# Altium schematic symbol library SEA_SCH_LIB.SchLib: 120 symbols
Pins are listed as number, name and electrical type; pins without a type are passive.

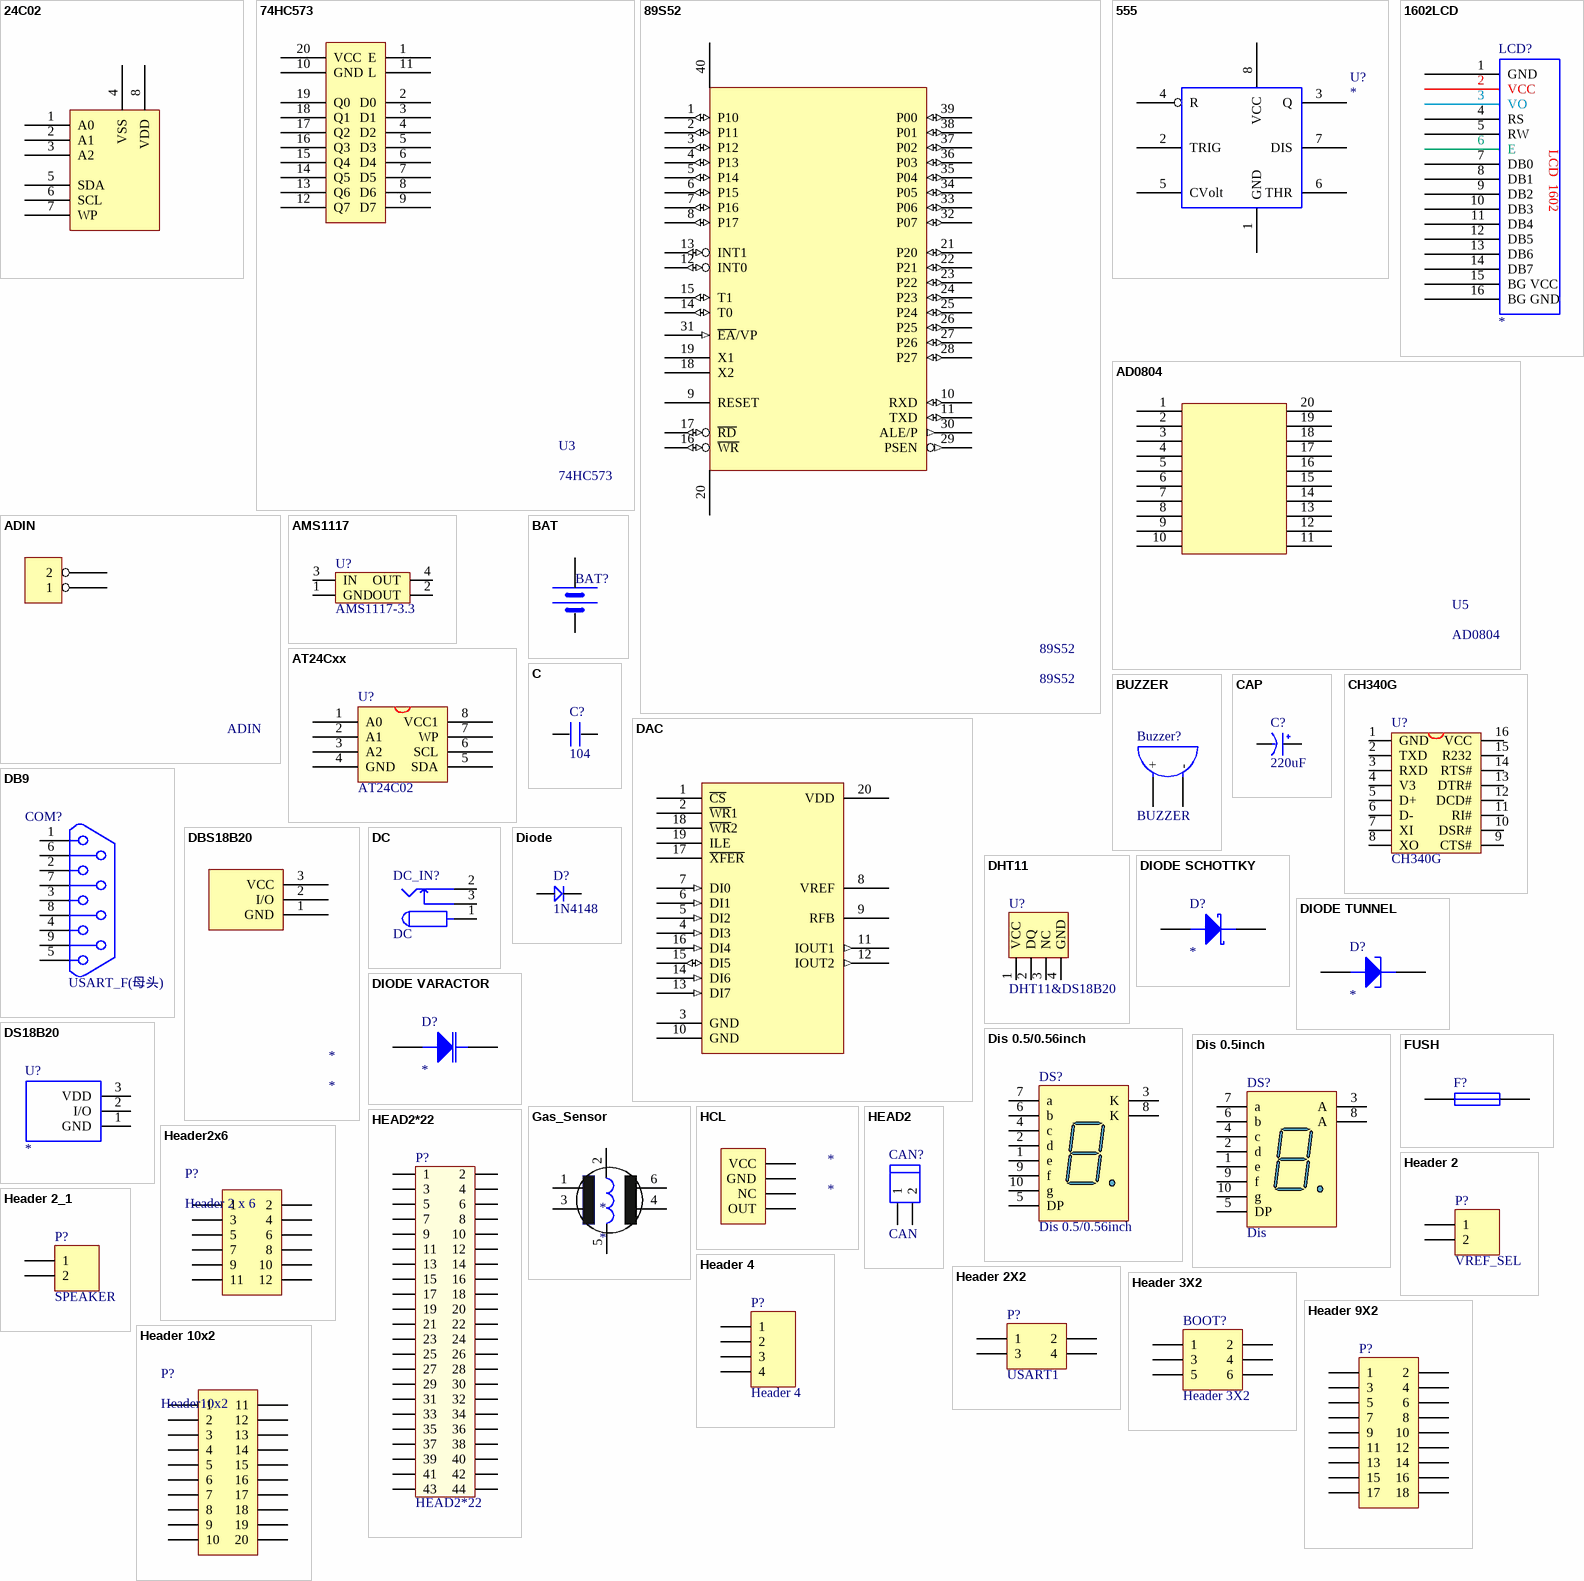
[diagram p0: symbols 24C02 to Header 10x2]

## 24C02
designator U6
pins: 1 A0, 2 A1, 3 A2, 4 VSS, 5 SDA, 6 SCL, 7 WP, 8 VDD

## 74HC573
designator U3
pins: 1 E, 2 D0, 3 D1, 4 D2, 5 D3, 6 D4, 7 D5, 8 D6, 9 D7, 10 GND, 11 L, 12 Q7, 13 Q6, 14 Q5, 15 Q4, 16 Q3, 17 Q2, 18 Q1, 19 Q0, 20 VCC

## 89S52
designator 89S52
pins: 1 P10 (io), 2 P11 (io), 3 P12 (io), 4 P13 (io), 5 P14 (io), 6 P15 (io), 7 P16 (io), 8 P17 (io), 9 RESET, 10 RXD (io), 11 TXD (io), 12 INT0 (io), 13 INT1 (io), 14 T0 (io), 15 T1 (io), 16 ~{WR} (io), 17 ~{RD} (io), 18 X2, 19 X1, 20, 21 P20 (io), 22 P21 (io), 23 P22 (io), 24 P23 (io), 25 P24 (io), 26 P25 (io), 27 P26 (io), 28 P27 (io), 29 PSEN (out), 30 ALE/P (out), 31 ~{EA}/VP (in), 32 P07 (io), 33 P06 (io), 34 P05 (io), 35 P04 (io), 36 P03 (io), 37 P02 (io), 38 P01 (io), 39 P00 (io), 40

## 555
designator U?
footprint DIP-8 (DIP; 8 Leads; Row Spacing 7.62 mm; Pitch 2.54 mm)
pins: 1 GND, 2 TRIG, 3 Q, 4 R, 5 CVolt, 6 THR, 7 DIS, 8 VCC

## 1602LCD
designator LCD?
footprint 1602LCD (LCD module 16*2 char)
pins: 1 GND, 2 VCC, 3 VO, 4 RS, 5 RW, 6 E, 7 DB0, 8 DB1, 9 DB2, 10 DB3, 11 DB4, 12 DB5, 13 DB6, 14 DB7, 15 BG VCC, 16 BG GND
text: LCD  1602

## AD0804
designator U5
pins: 1, 2, 3, 4, 5, 6, 7, 8, 9, 10, 11, 12, 13, 14, 15, 16, 17, 18, 19, 20

## ADIN
designator ?
pins: ?1 2, ?2 1

## AMS1117
designator U?, comment AMS1117-3.3
footprint AMS1117
pins: 1 GND, 2 OUT, 3 IN, 4 OUT

## AT24Cxx
designator U?, comment AT24C02
AT24Cxx
footprint AT24CXX(SOP8) (SOP8,EEPROM)
pins: 1 A0, 2 A1, 3 A2, 4 GND, 5 SDA, 6 SCL, 7 WP, 8 VCC1

## BAT
designator BAT?, comment BATT  (value not drawn)
footprint CR1220 - 1 (CR1220  1220电池座)
footprint CR1220 - 2 (CR1220电池座)
pins: 1 VCC, 2 GND

## BUZZER
designator Buzzer?
蜂鸣器
footprint BUZZER (蜂鸣器)
pins: 1 +, 2 -

## C
designator C?, comment 104
footprint 0603 (通用电容电阻0603 封装)
footprint 0805 (通用电容电阻0805封装)
footprint CAP0603 (CAP0603   0603电容)
pins: 1, 2

## CAP
designator C?, comment 220uF
footprint CAP5X5_4 (CAP5X5_4  贴片电解电容，注意尺寸)
footprint CAP6.56.5 (贴片电解电容)
footprint Cap1 (直插的电解电容，注意正负极，注意引脚距离)
footprint Cap2 (直插的电解电容，注意正负极，注意引脚距离)
footprint Cap3 (直插的电解电容，注意正负极，注意引脚距离)
footprint Cap4 (直插的电解电容，注意正负极，注意引脚距离)
footprint Cap5 (直插的电解电容，注意正负极，注意引脚距离)
footprint cap6 (直插的电解电容，注意正负极，注意引脚距离)
footprint cap7 (直插的电解电容，注意正负极，注意引脚距离)
footprint cap8 (直插的电解电容，注意正负极，注意引脚距离)
pins: 1 VCC, 2 GND

## CH340G
designator U?
USB2UART
footprint CH340 (SOP16,USB转TTL)
pins: 1 GND, 2 TXD, 3 RXD, 4 V3, 5 D+, 6 D-, 7 XI, 8 XO, 9 CTS#, 10 DSR#, 11 RI#, 12 DCD#, 13 DTR#, 14 RTS#, 15 R232, 16 VCC

## DAC
designator *
pins: 1 ~{CS}, 2 ~{WR}1, 3 GND, 4 DI3 (in), 5 DI2 (in), 6 DI1 (in), 7 DI0 (in), 8 VREF, 9 RFB, 10 GND, 11 IOUT1 (out), 12 IOUT2 (out), 13 DI7 (in), 14 DI6 (in), 15 DI5 (io), 16 DI4 (in), 17 ~{XFER}, 18 ~{WR}2, 19 ILE, 20 VDD

## DB9
designator COM?, comment USART_F(母头)
footprint DB9 (串口座)
pins: 1, 2, 3, 4, 5, 6, 7, 8, 9
2 alternate drawings of the same symbol

## DBS18B20
designator *
pins: 1 GND, 2 I/O, 3 VCC

## DC
designator DC_IN?
footprint DC (大DC座)
footprint DC3.5*1.1 (3.5mm*1.1mm  小DC座)
pins: 1, 2, 3

## DHT11
designator U?, comment DHT11&DS18B20
数字温湿度传感器,3-5.5V供电
footprint HDR1X4 (2.54mm)
footprint DHT11 (温湿度传感器,VCC：3-5.5V)
pins: 1 VCC, 2 DQ, 3 NC, 4 GND

## Diode
designator D?, comment 1N4148
二极管
footprint LL4148 (贴片开关二极管)
pins: 1, 2

## DIODE SCHOTTKY
designator D?
Schottky Diode
pins: 1, 2

## DIODE TUNNEL
designator D?
Diode Tunnel
pins: 1 A, 2 K

## DIODE VARACTOR
designator D?
Varactor Diode
pins: 1 A, 2 K

## Dis 0.5/0.56inch
designator DS?
数码管 共阴; MinimumIntensity: 2020 ucd; Note: IF = 10 mA; Colour: Blue; Published: 8-Jun-2000; LatestRevisionDate: 17-Dec-2003; LatestRevisionNote: Schematic revised, PCB Footprint replaced.; DatasheetVersion: 24-Sep-2002; PackageVersion: 24-Sep-2002; PackageReference: H; Publisher: Altium Limited; PackageDescription: LED, 7-Segment Display, 14.2 mm, RHD; 10 Leads; Row Space 15.24 mm; Pitch 2.54 mm; ComponentLink1Description: Manufacturer Link; ComponentLink1URL: http://www.agilent.com/
footprint Disp 0.5inch (数码管，0.5/0.56英寸数码管)
pins: 1 e "Anode", 2 d "Anode", 3 K "Common Cathode", 4 c "Anode", 5 DP "Anode", 6 b "Anode", 7 a "Anode", 8 K "Common Cathode", 9 f "Anode", 10 g "Anode"

## Dis 0.5inch
designator DS?, comment Dis
数码管  0.5/0.56inch 共阳; MinimumIntensity: 2020 ucd; Note: IF = 10 mA; Colour: Blue; Published: 8-Jun-2000; LatestRevisionDate: 17-Dec-2003; LatestRevisionNote: Schematic revised, PCB Footprint replaced.; DatasheetVersion: 24-Sep-2002; PackageVersion: 24-Sep-2002; PackageReference: H; Publisher: Altium Limited; PackageDescription: LED, 7-Segment Display, 14.2 mm, RHD; 10 Leads; Row Space 15.24 mm; Pitch 2.54 mm; ComponentLink1Description: Manufacturer Link; ComponentLink1URL: http://www.agilent.com/
footprint Disp 0.5inch (数码管，0.5/0.56英寸数码管)
pins: 1 e "Cathode", 2 d "Cathode", 3 A "Common Anode", 4 c "Cathode", 5 DP "Cathode", 6 b "Cathode", 7 a "Cathode", 8 A "Common Anode", 9 f "Cathode", 10 g "Cathode"

## DS18B20
designator U?
footprint TO-92A (TO, Flat Index; 3 In-Line, Axial Leads; Body Dia. 4.5mm; Leads 0.51 x 0.48 mm (max))
pins: 1 GND, 2 I/O, 3 VDD

## FUSH
designator F?
保险丝，保险丝的封装有很多，注意
footprint RES0805 (RES0805，0805电阻)
pins: 1, 2

## Gas_Sensor
designator *
pins: 1 (power), 2 (power), 3 (power), 4, 5, 6

## HCL
designator *
footprint hcl
pins: 1 VCC, 2 GND, 3 NC, 4 OUT

## HEAD2
designator CAN?, comment CAN
footprint HDR1X2 (2.54mm)
pins: 1, 2

## HEAD2*22
designator P?
footprint HEAD2*22 (PIN:2.54mm;HEAD;)
pins: 1, 2, 3, 4, 5, 6, 7, 8, 9, 10, 11, 12, 13, 14, 15, 16, 17, 18, 19, 20, 21, 22, 23, 24, 25, 26, 27, 28, 29, 30, 31, 32, 33, 34, 35, 36, 37, 38, 39, 40, 41, 42, 43, 44

## Header2x6
designator P?, comment Header 2 x 6
footprint Header2X6 (Footprint not found)
pins: 1, 2, 3, 4, 5, 6, 7, 8, 9, 10, 11, 12

## Header 2
designator P?, comment VREF_SEL
Header, 2-Pin; LatestRevisionDate: 17-Jul-2002; LatestRevisionNote: Re-released for DXP Platform.; Publisher: Altium Limited
footprint HDR1X2 (Connector; Header; 2 Position)
pins: 1, 2

## Header 2_1
designator P?, comment SPEAKER
Header, 2-Pin; LatestRevisionDate: 17-Jul-2002; LatestRevisionNote: Re-released for DXP Platform.; Publisher: Altium Limited
footprint HDR1X2 (Connector; Header; 2 Position)
pins: 1, 2

## Header 2X2
designator P?, comment USART1
Header, 2-Pin, Dual row; LatestRevisionDate: 17-Jul-2002; LatestRevisionNote: Re-released for DXP Platform.; Publisher: Altium Limited
footprint HDR2X2 (Connector; Header; 2x2 Position)
pins: 1, 2, 3, 4

## Header 3X2
designator BOOT?
Header, 3-Pin, Dual row; LatestRevisionDate: 17-Jul-2002; LatestRevisionNote: Re-released for DXP Platform.; Publisher: Altium Limited
footprint HDR2X3 (Connector; Header; 3x2 Position)
pins: 1, 2, 3, 4, 5, 6

## Header 4
designator P?
Header, 4-Pin; LatestRevisionDate: 17-Jul-2002; LatestRevisionNote: Re-released for DXP Platform.; Publisher: Altium Limited
footprint HDR1X4 (Connector; Header; 4 Position)
pins: 1, 2, 3, 4

## Header 9X2
designator P?
Header, 9-Pin, Dual row; LatestRevisionDate: 17-Jul-2002; LatestRevisionNote: Re-released for DXP Platform.; Publisher: Altium Limited
footprint HDR2X9 (Connector; Header; 9x2 Position)
pins: 1, 2, 3, 4, 5, 6, 7, 8, 9, 10, 11, 12, 13, 14, 15, 16, 17, 18

## Header 10x2
designator P?, comment Header10x2
connector
footprint Header10X2 (connector)
pins: 1, 2, 3, 4, 5, 6, 7, 8, 9, 10, 11, 12, 13, 14, 15, 16, 17, 18, 19, 20

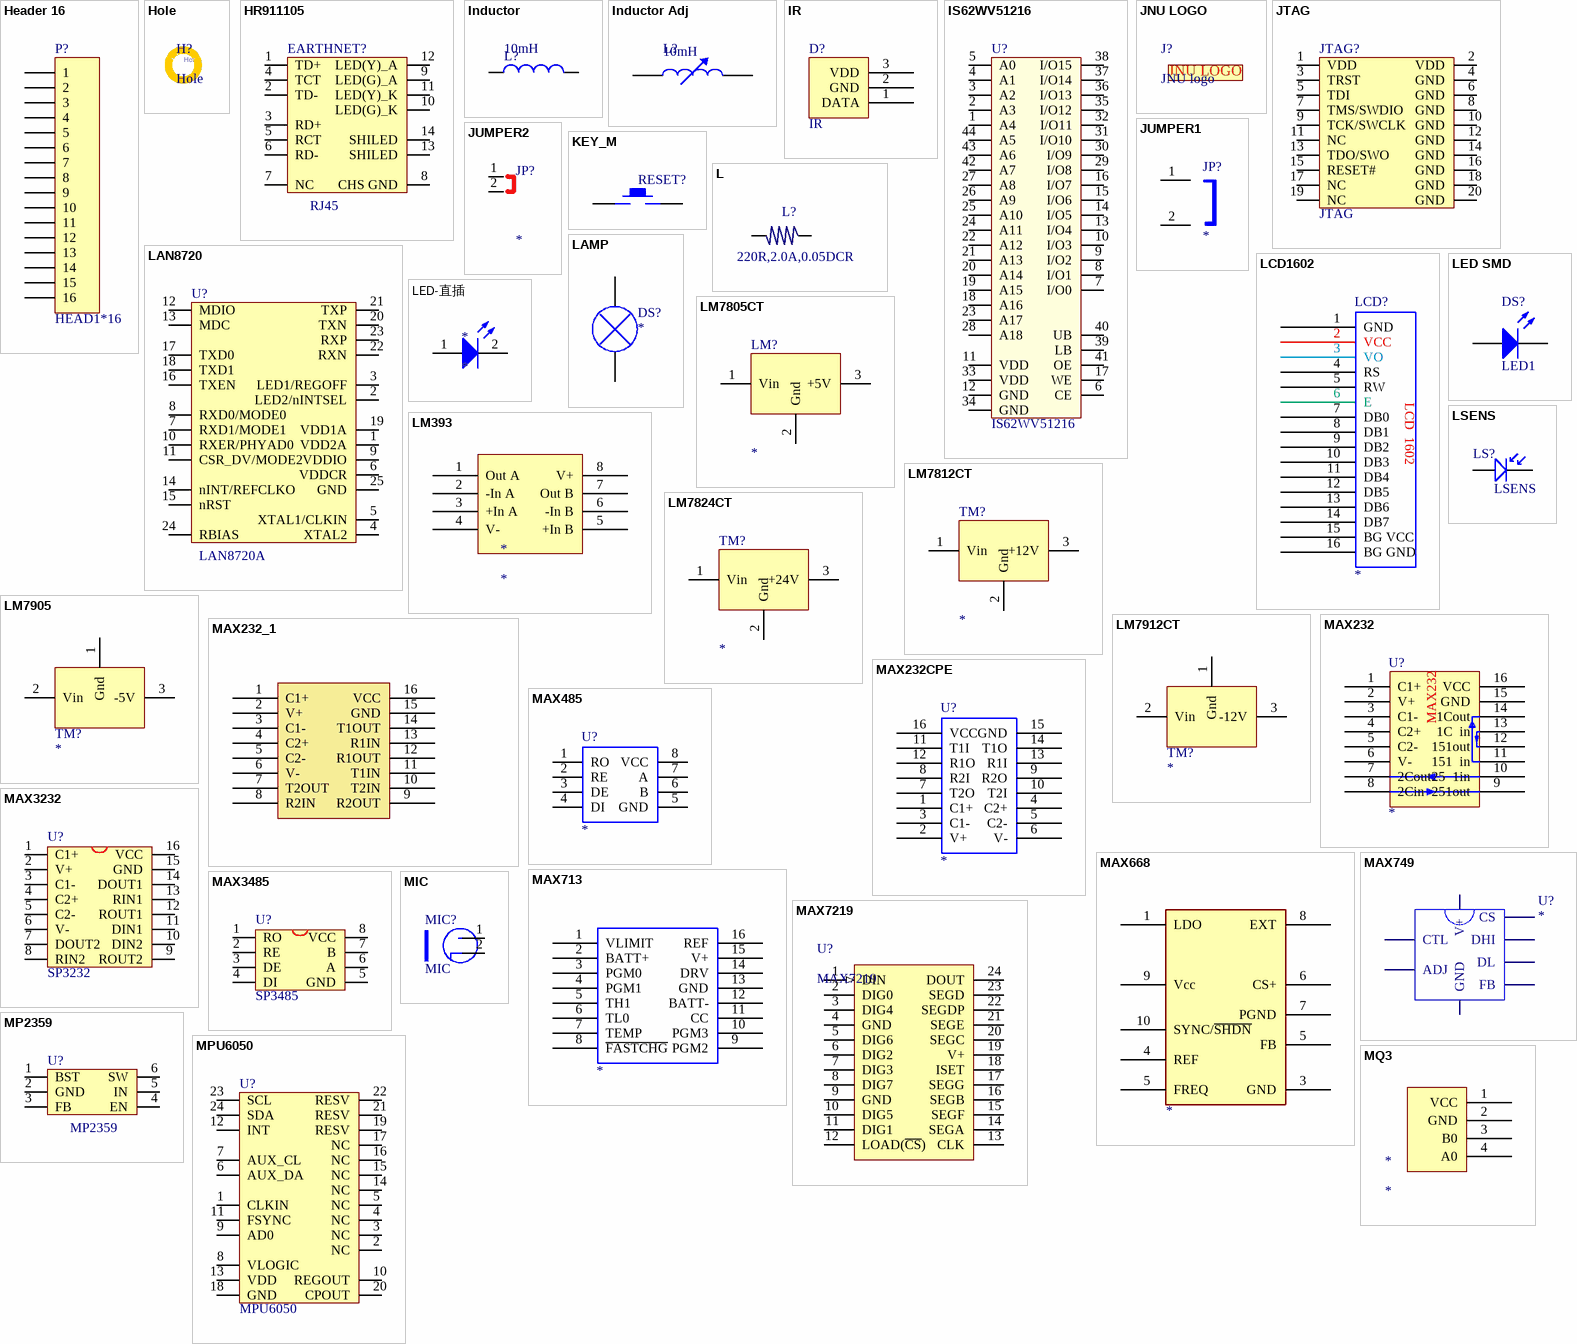
[diagram p1: symbols Header 16 to MQ3]

## Header 16
designator P?, comment HEAD1*16
Header, 16-Pin; LatestRevisionDate: 17-Jul-2002; LatestRevisionNote: Re-released for DXP Platform.; Publisher: Altium Limited
footprint HDR1X16 (Connector; Header; 16 Position)
pins: 1, 2, 3, 4, 5, 6, 7, 8, 9, 10, 11, 12, 13, 14, 15, 16

## Hole
designator H?
用于铜柱固定的孔
footprint Hole (电路板铜柱固定孔)

## HR911105
designator EARTHNET?, comment RJ45
footprint HR911105A (网线接口，其中keep out layer上的两个孔是两个洞)
footprint Model Name (Model Description)
pins: 1 TD+, 2 TD-, 3 RD+, 4 TCT, 5 RCT, 6 RD-, 7 NC, 8 CHS GND, 9 LED(G)_A, 10 LED(G)_K, 11 LED(Y)_K, 12 LED(Y)_A, 13 SHILED, 14 SHILED

## Inductor
designator L?  value 10mH
Inductor; Code_IEC: 1005; Published: 8-Jun-2000; LatestRevisionDate: 29-May-2009; LatestRevisionNote: IPC-7351 Footprint Added.; PackageReference: 0402-A; Publisher: Altium Limited; PackageDescription: Chip Inductor; Code_JEITA: 0402
footprint 0402-A (Chip Inductor, Body 1.0x0.5mm, IPC High Density)
footprint INDC1608L (Chip Inductor, Body 1.6x0.8mm, IPC High Density)
footprint 2029 (Chip Inductor, Body 2.0x1.2mm, IPC High Density)
footprint 0603 (Chip Inductor, Body 0.6x0.3mm, IPC High Density)
footprint INDC3216 (Chip Inductor, Body 3.2x1.6mm, IPC High Density)
footprint INDC4532 (Chip Inductor, Body 4.5x3.2mm, IPC High Density)
simulation model INDUCTOR (Inductor)
signal-integrity model Inductor
pins: 1, 2

## Inductor Adj
designator L?  value 10mH
Adjustable Inductor; Set Position: 0.5; Published: 24-Mar-1999; LatestRevisionDate: 17-Jul-2002; LatestRevisionNote: Re-released for DXP Platform.; PackageReference: AXIAL-0.8; Publisher: Altium Limited; PackageDescription: Axial Device, Thru-Hole; 2 Leads; 0.8 in Pin Spacing
footprint AXIAL-0.8 (Axial Device, Thru-Hole; 2 Leads; 0.8 in Pin Spacing)
simulation model INDUCTOR (Inductor)
signal-integrity model Inductor Adj
pins: 1, 2

## IR
designator D?
footprint IR (INFRARED RECEVICE) (IR 红外接收器)
pins: 1 DATA, 2 GND, 3 VDD

## IS62WV51216
designator U?
footprint IS62WV51216 (IS62WV51216，TSOP44，)
pins: 1 A4, 2 A3, 3 A2, 4 A1, 5 A0, 6 CE, 7 I/O0, 8 I/O1, 9 I/O2, 10 I/O3, 11 VDD, 12 GND, 13 I/O4, 14 I/O5, 15 I/O6, 16 I/O7, 17 WE, 18 A16, 19 A15, 20 A14, 21 A13, 22 A12, 23 A17, 24 A11, 25 A10, 26 A9, 27 A8, 28 A18, 29 I/O8, 30 I/O9, 31 I/O10, 32 I/O11, 33 VDD, 34 GND, 35 I/O12, 36 I/O13, 37 I/O14, 38 I/O15, 39 LB, 40 UB, 41 OE, 42 A7, 43 A6, 44 A5

## JNU LOGO
designator J?, comment JNU logo
footprint JNU LOGO - 1 (放在PCB背面的logo)
footprint JNU LOGO - 2 (放在PCBtop 丝印的logo)
footprint JNU_LOGO2 - 1 (放在PCB背面的Logo)
footprint JNU_LOGO2 - 2 (放在PCB正面的Logo)

## JTAG
designator JTAG?
footprint JTAG -1 (JTAG 20针JTAG接口,牛角)
footprint JTAG - 2
pins: 1 VDD, 2 VDD, 3 TRST, 4 GND, 5 TDI, 6 GND, 7 TMS/SWDIO, 8 GND, 9 TCK/SWCLK, 10 GND, 11 NC, 12 GND, 13 TDO/SWO, 14 GND, 15 RESET#, 16 GND, 17 NC, 18 GND, 19 NC, 20 GND

## JUMPER1
designator JP?
Jumper
footprint RAD0.2
pins: 1, 2

## JUMPER2
designator JP?
Jumper
footprint RAD0.2
pins: 1, 2

## KEY_M
designator RESET?  (value not drawn)
footprint KEY_M (直插的4脚按键)
footprint KEY4_SMD (KEY4_SMD，贴片按键)
pins: 1, 2

## L
designator L?, comment 220R,2.0A,0.05DCR
footprint L (贴片电感，正方体型的电感)
pins: 1, 2

## LAMP
designator DS?
pins: 1, 2

## LAN8720
designator U?, comment LAN8720A
ETH PHY
footprint LAN8720 (QFN24   PHY 网络物理层芯片)
pins: 1 VDD2A, 2 LED2/nINTSEL, 3 LED1/REGOFF, 4 XTAL2, 5 XTAL1/CLKIN, 6 VDDCR, 7 RXD1/MODE1, 8 RXD0/MODE0, 9 VDDIO, 10 RXER/PHYAD0, 11 CSR_DV/MODE2, 12 MDIO, 13 MDC, 14 nINT/REFCLKO, 15 nRST, 16 TXEN, 17 TXD0, 18 TXD1, 19 VDD1A, 20 TXN, 21 TXP, 22 RXN, 23 RXP, 24 RBIAS, 25 GND

## LCD1602
designator LCD?
footprint 1602LCD (LCD module 16*2 char)
pins: 1 GND, 2 VCC, 3 VO, 4 RS, 5 RW, 6 E, 7 DB0, 8 DB1, 9 DB2, 10 DB3, 11 DB4, 12 DB5, 13 DB6, 14 DB7, 15 BG VCC, 16 BG GND
text: LCD  1602

## LED SMD
designator DS?, comment LED1
Typical RED, GREEN, YELLOW, AMBER GaAs LED; Published: 8-Jun-2000; LatestRevisionDate: 17-Jul-2002; LatestRevisionNote: Re-released for DXP Platform.; PackageDocument: Feb-2002; PackageReference: 3.2X1.6X1.1; Publisher: Altium Limited
footprint SMDLED (贴片 0805LED)
footprint 0603 (通用电容电阻0603 封装)
footprint Model Name (Footprint not found)
pins: 1 A, 2 K

## LED-直插
designator *
footprint LED (直插LED，长脚为正)
pins: 1, 2

## LM393
designator *
footprint LM393
pins: 1 Out A, 2 -In A, 3 +In A, 4 V-, 5 +In B, 6 -In B, 7 Out B, 8 V+

## LM7805CT
designator LM?
三端稳压器
footprint TO-220
pins: 1 Vin, 2 Gnd, 3 +5V

## LM7812CT
designator TM?
三端稳压器
footprint TO-220
pins: 1 Vin, 2 Gnd, 3 +12V

## LM7824CT
designator TM?
三端稳压器
footprint TO-220
pins: 1 Vin, 2 Gnd, 3 +24V

## LM7905
designator TM?
footprint TO-220
pins: 1 Gnd, 2 Vin, 3 -5V

## LM7912CT
designator TM?
footprint TO-220
pins: 1 Gnd, 2 Vin, 3 -12V

## LSENS
designator LS?
LIGHT SENSOR
footprint SMDLED (贴片 0805LED)
pins: 1, 2

## MAX232
designator U?
pins: 1 C1+, 2 V+, 3 C1-, 4 C2+, 5 C2-, 6 V-, 7 2Cout, 8 2Cin, 9 251out, 10 25  1in, 11 151  in, 12 151out, 13 1C  in, 14 1Cout, 15 GND, 16 VCC

## MAX232_1
designator *
pins: 1 C1+, 2 V+, 3 C1-, 4 C2+, 5 C2-, 6 V-, 7 T2OUT, 8 R2IN, 9 R2OUT, 10 T2IN, 11 T1IN, 12 R1OUT, 13 R1IN, 14 T1OUT, 15 GND, 16 VCC

## MAX232CPE
designator U?
pins: 1 C1+, 2 V+, 3 C1-, 4 C2+, 5 C2-, 6 V-, 7 T2O, 8 R2I, 9 R2O, 10 T2I, 11 T1I, 12 R1O, 13 R1I, 14 T1O, 15 GND, 16 VCC

## MAX485
designator U?
footprint DIP-4
pins: 1 RO, 2 RE, 3 DE, 4 DI, 5 GND, 6 B, 7 A, 8 VCC

## MAX668
designator ?
pins: 1 LDO, 3 GND, 4 REF, 5 FREQ, 5 FB, 6 CS+, 7 PGND, 8 EXT, 9 Vcc, 10 SYNC/~{SHDN}

## MAX713
designator ?
pins: 1 VLIMIT, 2 BATT+, 3 PGM0, 4 PGM1, 5 TH1, 6 TL0, 7 TEMP, 8 ~{FASTCHG}, 9 PGM2, 10 PGM3, 11 CC, 12 BATT-, 13 GND, 14 DRV, 15 V+, 16 REF

## MAX749
designator U?
pins: 1 V+, 2 ADJ, 3 CTL, 4 FB, 5 GND, 6 DL, 7 DHI, 8 CS

## MAX3232
designator U?, comment SP3232
footprint MAX3232 (SOP16M)
pins: 1 C1+, 2 V+, 3 C1-, 4 C2+, 5 C2-, 6 V-, 7 DOUT2, 8 RIN2, 9 ROUT2, 10 DIN2, 11 DIN1, 12 ROUT1, 13 RIN1, 14 DOUT1, 15 GND, 16 VCC

## MAX3485
designator U?, comment SP3485
footprint MAX3485（SOP8) (SOP8,MAX3485，TTL2485)
pins: 1 RO, 2 RE, 3 DE, 4 DI, 5 GND, 6 A, 7 B, 8 VCC

## MAX7219
designator U?
MAX7219点阵管理芯片
footprint MAX7219 (点阵管理芯片)
pins: 1 DIN (in), 2 DIG0, 3 DIG4, 4 GND (power), 5 DIG6, 6 DIG2, 7 DIG3, 8 DIG7, 9 GND (power), 10 DIG5, 11 DIG1, 12 LOAD(~{CS}), 13 CLK, 14 SEGA, 15 SEGF, 16 SEGB, 17 SEGG, 18 ISET, 19 V+ (power), 20 SEGC, 21 SEGE, 22 SEGDP, 23 SEGD, 24 DOUT

## MIC
designator MIC?
footprint MIC (圆形的小唛头)
pins: 1 VCC, 2 GND
1 alternate drawing of the same symbol

## MP2359
designator U?
DC DC Step Down IC
footprint MP2539
pins: 1 BST, 2 GND, 3 FB, 4 EN, 5 IN, 6 SW

## MPU6050
designator U?
9轴运动处理传感器
footprint MPU6050 (MPU6050,QFN24)
pins: 1 CLKIN, 2 NC, 3 NC, 4 NC, 5 NC, 6 AUX_DA, 7 AUX_CL, 8 VLOGIC, 9 AD0, 10 REGOUT, 11 FSYNC, 12 INT, 13 VDD, 14 NC, 15 NC, 16 NC, 17 NC, 18 GND, 19 RESV, 20 CPOUT, 21 RESV, 22 RESV, 23 SCL, 24 SDA

## MQ3
designator *
footprint HDR1X4 (2.54mm)
pins: 1 VCC, 2 GND, 3 B0, 4 A0

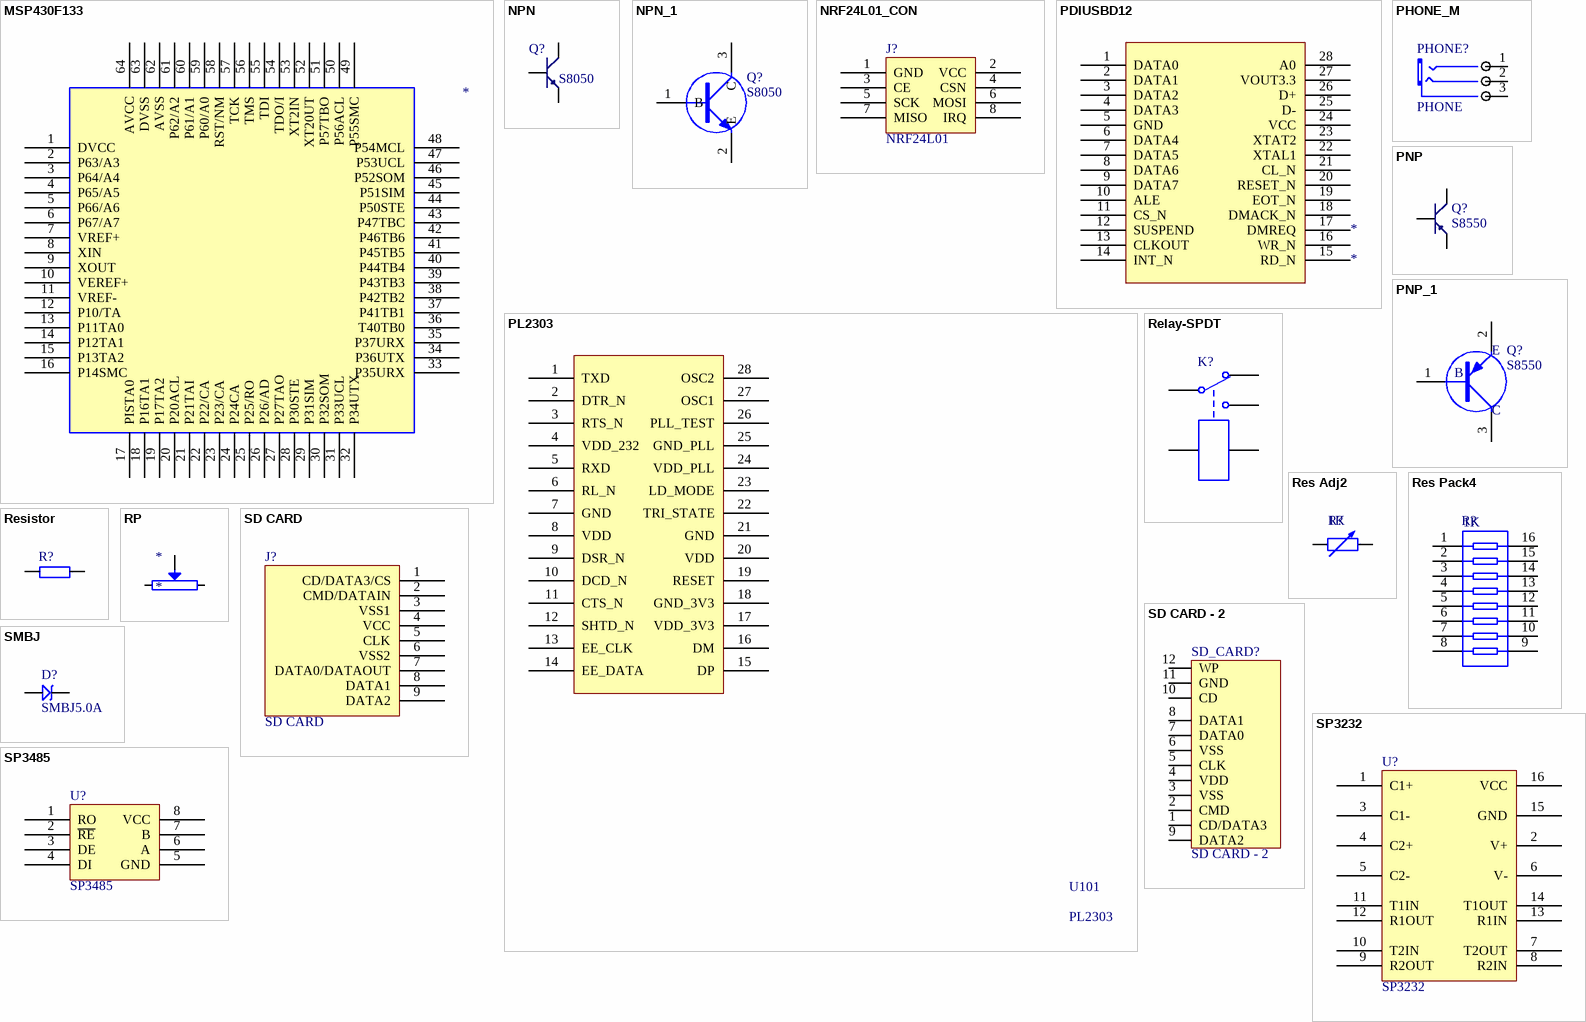
[diagram p2: symbols MSP430F133 to SP3485]

## MSP430F133
designator ?
pins: 1 DVCC, 2 P63/A3, 3 P64/A4, 4 P65/A5, 5 P66/A6, 6 P67/A7, 7 VREF+, 8 XIN, 9 XOUT, 10 VEREF+, 11 VREF-, 12 P10/TA, 13 P11TA0, 14 P12TA1, 15 P13TA2, 16 P14SMC, 17 PISTA0, 18 P16TA1, 19 P17TA2, 20 P20ACL, 21 P21TAI, 22 P22/CA, 23 P23/CA, 24 P24CA, 25 P25/RO, 26 P26/AD, 27 P27TAO, 28 P30STE, 29 P31SIM, 30 P32SOM, 31 P33UCL, 32 P34UTX, 33 P35URX, 34 P36UTX, 35 P37URX, 36 T40TB0, 37 P41TB1, 38 P42TB2, 39 P43TB3, 40 P44TB4, 41 P45TB5, 42 P46TB6, 43 P47TBC, 44 P50STE, 45 P51SIM, 46 P52SOM, 47 P53UCL, 48 P54MCL, 49 P55SMC, 50 P56ACL, 51 P57TBO, 52 XT20UT, 53 XT2IN, 54 TDO/I, 55 TDI, 56 TMS, 57 TCK, 58 RST/NM, 59 P60/A0, 60 P61/A1, 61 P62/A2, 62 AVSS, 63 DVSS, 64 AVCC

## NPN
designator Q?, comment S8050
8050/BCW846/BCW847
footprint SOT-23R (贴片三极管，注意引脚序号)
pins: 1 E, 2 B, 3 C

## NPN_1
designator Q?, comment S8050
8050/BCW846/BCW847
footprint SOT-23
pins: 1 B, 2 E, 3 C

## NRF24L01_CON
designator J?, comment NRF24L01
pins: 1 GND, 2 VCC, 3 CE, 4 CSN, 5 SCK, 6 MOSI, 7 MISO, 8 IRQ

## PDIUSBD12
designator *
pins: 1 DATA0, 2 DATA1, 3 DATA2, 4 DATA3, 5 GND, 6 DATA4, 7 DATA5, 8 DATA6, 9 DATA7, 10 ALE, 11 CS_N, 12 SUSPEND, 13 CLKOUT, 14 INT_N, 15 RD_N, 16 WR_N, 17 DMREQ, 18 DMACK_N, 19 EOT_N, 20 RESET_N, 21 CL_N, 22 XTAL1, 23 XTAT2, 24 VCC, 25 D-, 26 D+, 27 VOUT3.3, 28 A0

## PHONE_M
designator PHONE?, comment PHONE
footprint PHONE_ST (音频接口，插耳机的地方)
pins: 1 CHL, 2 CHR, 3 COM

## PL2303
designator U101
footprint PL2303 -SOP28N
pins: 1 TXD, 2 DTR_N, 3 RTS_N, 4 VDD_232, 5 RXD, 6 RL_N, 7 GND, 8 VDD, 9 DSR_N, 10 DCD_N, 11 CTS_N, 12 SHTD_N, 13 EE_CLK, 14 EE_DATA, 15 DP, 16 DM, 17 VDD_3V3, 18 GND_3V3, 19 RESET, 20 VDD, 21 GND, 22 TRI_STATE, 23 LD_MODE, 24 VDD_PLL, 25 GND_PLL, 26 PLL_TEST, 27 OSC1, 28 OSC2

## PNP
designator Q?, comment S8550
8550/BCW68
footprint SOT-23R (SOT-23; 3 Leads; Body 3.0 x 2.5 mm, inc. leads (LxW max))
pins: 1 E, 2 B, 3 C

## PNP_1
designator Q?, comment S8550
footprint SOT-23
pins: 1 B, 2 E, 3 C

## Relay-SPDT
designator K?
Single-Pole Dual-Throw Relay; Published: 24-Mar-1999; LatestRevisionDate: 17-Jul-2002; LatestRevisionNote: Re-released for DXP Platform.; PackageReference: MODULE5B; Publisher: Altium Limited
simulation model SPDTRELAY (Spice Subcircuit)
pins: 1, 2, 3, 4, 5

## Res Adj2
designator R?  value 1K
Variable Resistor; Set Position: 0.5; Published: 8-Jun-2000; LatestRevisionDate: 17-Jul-2002; LatestRevisionNote: Re-released for DXP Platform.; PackageReference: AXIAL-0.6; Publisher: Altium Limited; PackageDescription: Axial Device, Thru-Hole; 2 Leads; 0.6 in Pin Spacing
footprint AXIAL-0.6 (Axial Device, Thru-Hole; 2 Leads; 0.6 in Pin Spacing)
simulation model VRES (Variable Resistor)
signal-integrity model Res Adj
pins: 1, 2

## Res Pack4
designator R?  value 1K
Isolated Resistor Network; Published: 24-Mar-1999; LatestRevisionDate: 29-May-2009; LatestRevisionNote: IPC-7351 Footprint Added.; PackageVersion: Oct-2003; PackageReference: SSOP16; Publisher: Altium Limited; PackageDescription: 16-Pin Plastic Small Outline Package 0.65 mm Pitch; Code_JEDEC: MO-150-AC; Code_IPC: SOP65P780-16
footprint SSOP16_N (SOP, 16-Leads, Body 6.2x5.3mm, Pitch 0.65mm, IPC Medium Density)
footprint SSOP16_L (SOP, 16-Leads, Body 6.2x5.3mm, Pitch 0.65mm, IPC High Density)
footprint SSOP16_M (SOP, 16-Leads, Body 6.2x5.3mm, Pitch 0.65mm, IPC Low Density)
simulation model respack_8 (Spice Subcircuit)
pins: 1, 2, 3, 4, 5, 6, 7, 8, 9, 10, 11, 12, 13, 14, 15, 16

## Resistor
designator R?
footprint 0603 (通用电容电阻0603 封装)
footprint 0805 (通用电容电阻0805封装)
pins: 1, 2

## RP
designator *
pins: 1, 2, 3

## SD CARD
designator J?
footprint SD - 1 (SD，大的SD卡座)
footprint SD - 2
pins: 1 CD/DATA3/CS, 2 CMD/DATAIN, 3 VSS1, 4 VCC, 5 CLK, 6 VSS2, 7 DATA0/DATAOUT, 8 DATA1, 9 DATA2

## SD CARD - 2
designator SD_CARD?
footprint SD - 1 (SD，大的SD卡座)
footprint SD - 2
pins: 1 CD/DATA3, 2 CMD, 3 VSS, 4 VDD, 5 CLK, 6 VSS, 7 DATA0, 8 DATA1, 9 DATA2, 10 CD, 11 GND, 12 WP

## SMBJ
designator D?, comment SMBJ5.0A
TVS
footprint SMBJ (3.9*5.6)
pins: 1, 2

## SP3232
designator U?
footprint SP3232 (SOP16,TTL2232)
pins: 1 C1+, 2 V+, 3 C1-, 4 C2+, 5 C2-, 6 V-, 7 T2OUT, 8 R2IN, 9 R2OUT, 10 T2IN, 11 T1IN, 12 R1OUT, 13 R1IN, 14 T1OUT, 15 GND, 16 VCC

## SP3485
designator U?
footprint SP485 (SOP8,)
pins: 1 RO, 2 ~{RE}, 3 DE, 4 DI, 5 GND, 6 A, 7 B, 8 VCC

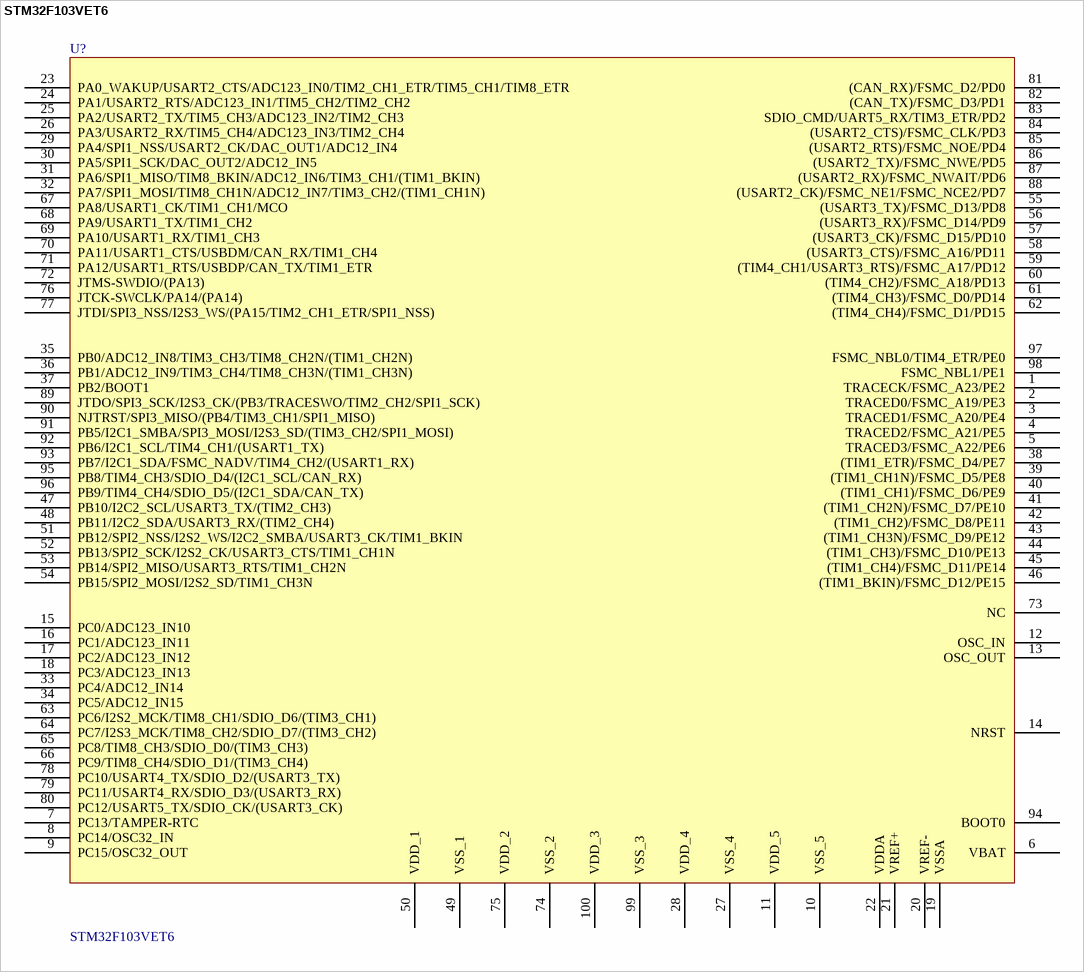
[diagram p3: symbol STM32F103VET6]

## STM32F103VET6
designator U?
LQFP100
footprint LQFP100
pins: 1 TRACECK/FSMC_A23/PE2, 2 TRACED0/FSMC_A19/PE3, 3 TRACED1/FSMC_A20/PE4, 4 TRACED2/FSMC_A21/PE5, 5 TRACED3/FSMC_A22/PE6, 6 VBAT, 7 PC13/TAMPER-RTC, 8 PC14/OSC32_IN, 9 PC15/OSC32_OUT, 10 VSS_5, 11 VDD_5, 12 OSC_IN, 13 OSC_OUT, 14 NRST, 15 PC0/ADC123_IN10, 16 PC1/ADC123_IN11, 17 PC2/ADC123_IN12, 18 PC3/ADC123_IN13, 19 VSSA, 20 VREF-, 21 VREF+, 22 VDDA, 23 PA0_WAKUP/USART2_CTS/ADC123_IN0/TIM2_CH1_ETR/TIM5_CH1/TIM8_ETR, 24 PA1/USART2_RTS/ADC123_IN1/TIM5_CH2/TIM2_CH2, 25 PA2/USART2_TX/TIM5_CH3/ADC123_IN2/TIM2_CH3, 26 PA3/USART2_RX/TIM5_CH4/ADC123_IN3/TIM2_CH4, 27 VSS_4, 28 VDD_4, 29 PA4/SPI1_NSS/USART2_CK/DAC_OUT1/ADC12_IN4, 30 PA5/SPI1_SCK/DAC_OUT2/ADC12_IN5, 31 PA6/SPI1_MISO/TIM8_BKIN/ADC12_IN6/TIM3_CH1/(TIM1_BKIN), 32 PA7/SPI1_MOSI/TIM8_CH1N/ADC12_IN7/TIM3_CH2/(TIM1_CH1N), 33 PC4/ADC12_IN14, 34 PC5/ADC12_IN15, 35 PB0/ADC12_IN8/TIM3_CH3/TIM8_CH2N/(TIM1_CH2N), 36 PB1/ADC12_IN9/TIM3_CH4/TIM8_CH3N/(TIM1_CH3N), 37 PB2/BOOT1, 38 (TIM1_ETR)/FSMC_D4/PE7, 39 (TIM1_CH1N)/FSMC_D5/PE8, 40 (TIM1_CH1)/FSMC_D6/PE9, 41 (TIM1_CH2N)/FSMC_D7/PE10, 42 (TIM1_CH2)/FSMC_D8/PE11, 43 (TIM1_CH3N)/FSMC_D9/PE12, 44 (TIM1_CH3)/FSMC_D10/PE13, 45 (TIM1_CH4)/FSMC_D11/PE14, 46 (TIM1_BKIN)/FSMC_D12/PE15, 47 PB10/I2C2_SCL/USART3_TX/(TIM2_CH3), 48 PB11/I2C2_SDA/USART3_RX/(TIM2_CH4), 49 VSS_1, 50 VDD_1, 51 PB12/SPI2_NSS/I2S2_WS/I2C2_SMBA/USART3_CK/TIM1_BKIN, 52 PB13/SPI2_SCK/I2S2_CK/USART3_CTS/TIM1_CH1N, 53 PB14/SPI2_MISO/USART3_RTS/TIM1_CH2N, 54 PB15/SPI2_MOSI/I2S2_SD/TIM1_CH3N, 55 (USART3_TX)/FSMC_D13/PD8, 56 (USART3_RX)/FSMC_D14/PD9, 57 (USART3_CK)/FSMC_D15/PD10, 58 (USART3_CTS)/FSMC_A16/PD11, 59 (TIM4_CH1/USART3_RTS)/FSMC_A17/PD12, 60 (TIM4_CH2)/FSMC_A18/PD13, 61 (TIM4_CH3)/FSMC_D0/PD14, 62 (TIM4_CH4)/FSMC_D1/PD15, 63 PC6/I2S2_MCK/TIM8_CH1/SDIO_D6/(TIM3_CH1), 64 PC7/I2S3_MCK/TIM8_CH2/SDIO_D7/(TIM3_CH2), 65 PC8/TIM8_CH3/SDIO_D0/(TIM3_CH3), 66 PC9/TIM8_CH4/SDIO_D1/(TIM3_CH4), 67 PA8/USART1_CK/TIM1_CH1/MCO, 68 PA9/USART1_TX/TIM1_CH2, 69 PA10/USART1_RX/TIM1_CH3, 70 PA11/USART1_CTS/USBDM/CAN_RX/TIM1_CH4, 71 PA12/USART1_RTS/USBDP/CAN_TX/TIM1_ETR, 72 JTMS-SWDIO/(PA13), 73 NC, 74 VSS_2, 75 VDD_2, 76 JTCK-SWCLK/PA14/(PA14), 77 JTDI/SPI3_NSS/I2S3_WS/(PA15/TIM2_CH1_ETR/SPI1_NSS), 78 PC10/USART4_TX/SDIO_D2/(USART3_TX), 79 PC11/USART4_RX/SDIO_D3/(USART3_RX), 80 PC12/USART5_TX/SDIO_CK/(USART3_CK), 81 (CAN_RX)/FSMC_D2/PD0, 82 (CAN_TX)/FSMC_D3/PD1, 83 SDIO_CMD/UART5_RX/TIM3_ETR/PD2, 84 (USART2_CTS)/FSMC_CLK/PD3, 85 (USART2_RTS)/FSMC_NOE/PD4, 86 (USART2_TX)/FSMC_NWE/PD5, 87 (USART2_RX)/FSMC_NWAIT/PD6, 88 (USART2_CK)/FSMC_NE1/FSMC_NCE2/PD7, 89 JTDO/SPI3_SCK/I2S3_CK/(PB3/TRACESWO/TIM2_CH2/SPI1_SCK), 90 NJTRST/SPI3_MISO/(PB4/TIM3_CH1/SPI1_MISO), 91 PB5/I2C1_SMBA/SPI3_MOSI/I2S3_SD/(TIM3_CH2/SPI1_MOSI), 92 PB6/I2C1_SCL/TIM4_CH1/(USART1_TX), 93 PB7/I2C1_SDA/FSMC_NADV/TIM4_CH2/(USART1_RX), 94 BOOT0, 95 PB8/TIM4_CH3/SDIO_D4/(I2C1_SCL/CAN_RX), 96 PB9/TIM4_CH4/SDIO_D5/(I2C1_SDA/CAN_TX), 97 FSMC_NBL0/TIM4_ETR/PE0, 98 FSMC_NBL1/PE1, 99 VSS_3, 100 VDD_3

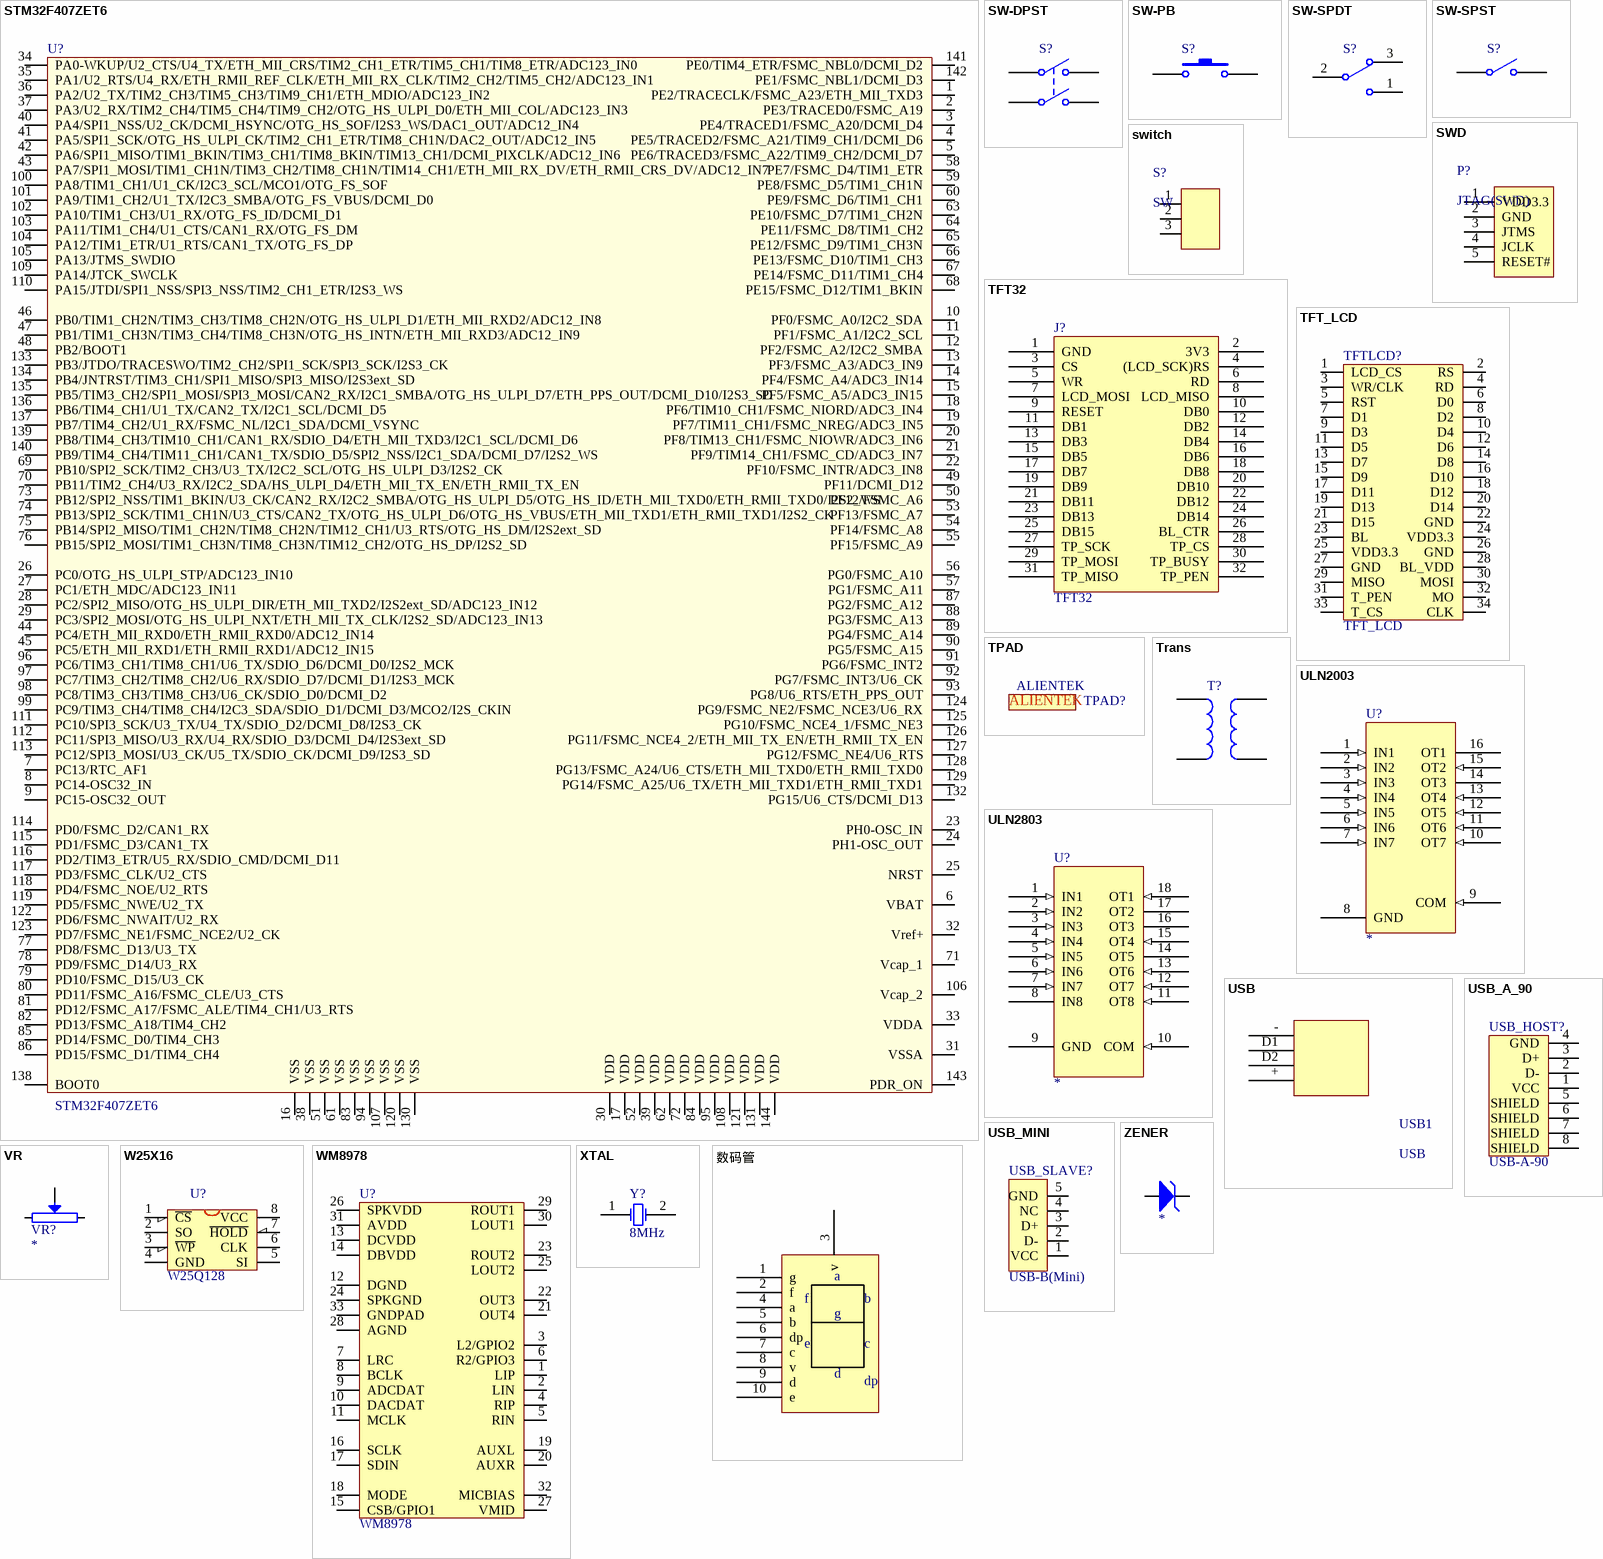
[diagram p4: symbols STM32F407ZET6 to 数码管]

## STM32F407ZET6
designator U?
LQFP144
footprint LQFP144
pins: 1 PE2/TRACECLK/FSMC_A23/ETH_MII_TXD3, 2 PE3/TRACED0/FSMC_A19, 3 PE4/TRACED1/FSMC_A20/DCMI_D4, 4 PE5/TRACED2/FSMC_A21/TIM9_CH1/DCMI_D6, 5 PE6/TRACED3/FSMC_A22/TIM9_CH2/DCMI_D7, 6 VBAT, 7 PC13/RTC_AF1, 8 PC14-OSC32_IN, 9 PC15-OSC32_OUT, 10 PF0/FSMC_A0/I2C2_SDA, 11 PF1/FSMC_A1/I2C2_SCL, 12 PF2/FSMC_A2/I2C2_SMBA, 13 PF3/FSMC_A3/ADC3_IN9, 14 PF4/FSMC_A4/ADC3_IN14, 15 PF5/FSMC_A5/ADC3_IN15, 16 VSS, 17 VDD, 18 PF6/TIM10_CH1/FSMC_NIORD/ADC3_IN4, 19 PF7/TIM11_CH1/FSMC_NREG/ADC3_IN5, 20 PF8/TIM13_CH1/FSMC_NIOWR/ADC3_IN6, 21 PF9/TIM14_CH1/FSMC_CD/ADC3_IN7, 22 PF10/FSMC_INTR/ADC3_IN8, 23 PH0-OSC_IN, 24 PH1-OSC_OUT, 25 NRST, 26 PC0/OTG_HS_ULPI_STP/ADC123_IN10, 27 PC1/ETH_MDC/ADC123_IN11, 28 PC2/SPI2_MISO/OTG_HS_ULPI_DIR/ETH_MII_TXD2/I2S2ext_SD/ADC123_IN12, 29 PC3/SPI2_MOSI/OTG_HS_ULPI_NXT/ETH_MII_TX_CLK/I2S2_SD/ADC123_IN13, 30 VDD, 31 VSSA, 32 Vref+, 33 VDDA, 34 PA0-WKUP/U2_CTS/U4_TX/ETH_MII_CRS/TIM2_CH1_ETR/TIM5_CH1/TIM8_ETR/ADC123_IN0, 35 PA1/U2_RTS/U4_RX/ETH_RMII_REF_CLK/ETH_MII_RX_CLK/TIM2_CH2/TIM5_CH2/ADC123_IN1, 36 PA2/U2_TX/TIM2_CH3/TIM5_CH3/TIM9_CH1/ETH_MDIO/ADC123_IN2, 37 PA3/U2_RX/TIM2_CH4/TIM5_CH4/TIM9_CH2/OTG_HS_ULPI_D0/ETH_MII_COL/ADC123_IN3, 38 VSS, 39 VDD, 40 PA4/SPI1_NSS/U2_CK/DCMI_HSYNC/OTG_HS_SOF/I2S3_WS/DAC1_OUT/ADC12_IN4, 41 PA5/SPI1_SCK/OTG_HS_ULPI_CK/TIM2_CH1_ETR/TIM8_CH1N/DAC2_OUT/ADC12_IN5, 42 PA6/SPI1_MISO/TIM1_BKIN/TIM3_CH1/TIM8_BKIN/TIM13_CH1/DCMI_PIXCLK/ADC12_IN6, 43 PA7/SPI1_MOSI/TIM1_CH1N/TIM3_CH2/TIM8_CH1N/TIM14_CH1/ETH_MII_RX_DV/ETH_RMII_CRS_DV/ADC12_IN7, 44 PC4/ETH_MII_RXD0/ETH_RMII_RXD0/ADC12_IN14, 45 PC5/ETH_MII_RXD1/ETH_RMII_RXD1/ADC12_IN15, 46 PB0/TIM1_CH2N/TIM3_CH3/TIM8_CH2N/OTG_HS_ULPI_D1/ETH_MII_RXD2/ADC12_IN8, 47 PB1/TIM1_CH3N/TIM3_CH4/TIM8_CH3N/OTG_HS_INTN/ETH_MII_RXD3/ADC12_IN9, 48 PB2/BOOT1, 49 PF11/DCMI_D12, 50 PF12/FSMC_A6, 51 VSS, 52 VDD, 53 PF13/FSMC_A7, 54 PF14/FSMC_A8, 55 PF15/FSMC_A9, 56 PG0/FSMC_A10, 57 PG1/FSMC_A11, 58 PE7/FSMC_D4/TIM1_ETR, 59 PE8/FSMC_D5/TIM1_CH1N, 60 PE9/FSMC_D6/TIM1_CH1, 61 VSS, 62 VDD, 63 PE10/FSMC_D7/TIM1_CH2N, 64 PE11/FSMC_D8/TIM1_CH2, 65 PE12/FSMC_D9/TIM1_CH3N, 66 PE13/FSMC_D10/TIM1_CH3, 67 PE14/FSMC_D11/TIM1_CH4, 68 PE15/FSMC_D12/TIM1_BKIN, 69 PB10/SPI2_SCK/TIM2_CH3/U3_TX/I2C2_SCL/OTG_HS_ULPI_D3/I2S2_CK, 70 PB11/TIM2_CH4/U3_RX/I2C2_SDA/HS_ULPI_D4/ETH_MII_TX_EN/ETH_RMII_TX_EN, 71 Vcap_1, 72 VDD, 73 PB12/SPI2_NSS/TIM1_BKIN/U3_CK/CAN2_RX/I2C2_SMBA/OTG_HS_ULPI_D5/OTG_HS_ID/ETH_MII_TXD0/ETH_RMII_TXD0/I2S2_WS, 74 PB13/SPI2_SCK/TIM1_CH1N/U3_CTS/CAN2_TX/OTG_HS_ULPI_D6/OTG_HS_VBUS/ETH_MII_TXD1/ETH_RMII_TXD1/I2S2_CK, 75 PB14/SPI2_MISO/TIM1_CH2N/TIM8_CH2N/TIM12_CH1/U3_RTS/OTG_HS_DM/I2S2ext_SD, 76 PB15/SPI2_MOSI/TIM1_CH3N/TIM8_CH3N/TIM12_CH2/OTG_HS_DP/I2S2_SD, 77 PD8/FSMC_D13/U3_TX, 78 PD9/FSMC_D14/U3_RX, 79 PD10/FSMC_D15/U3_CK, 80 PD11/FSMC_A16/FSMC_CLE/U3_CTS, 81 PD12/FSMC_A17/FSMC_ALE/TIM4_CH1/U3_RTS, 82 PD13/FSMC_A18/TIM4_CH2, 83 VSS, 84 VDD, 85 PD14/FSMC_D0/TIM4_CH3, 86 PD15/FSMC_D1/TIM4_CH4, 87 PG2/FSMC_A12, 88 PG3/FSMC_A13, 89 PG4/FSMC_A14, 90 PG5/FSMC_A15, 91 PG6/FSMC_INT2, 92 PG7/FSMC_INT3/U6_CK, 93 PG8/U6_RTS/ETH_PPS_OUT, 94 VSS, 95 VDD, 96 PC6/TIM3_CH1/TIM8_CH1/U6_TX/SDIO_D6/DCMI_D0/I2S2_MCK, 97 PC7/TIM3_CH2/TIM8_CH2/U6_RX/SDIO_D7/DCMI_D1/I2S3_MCK, 98 PC8/TIM3_CH3/TIM8_CH3/U6_CK/SDIO_D0/DCMI_D2, 99 PC9/TIM3_CH4/TIM8_CH4/I2C3_SDA/SDIO_D1/DCMI_D3/MCO2/I2S_CKIN, 100 PA8/TIM1_CH1/U1_CK/I2C3_SCL/MCO1/OTG_FS_SOF, 101 PA9/TIM1_CH2/U1_TX/I2C3_SMBA/OTG_FS_VBUS/DCMI_D0, 102 PA10/TIM1_CH3/U1_RX/OTG_FS_ID/DCMI_D1, 103 PA11/TIM1_CH4/U1_CTS/CAN1_RX/OTG_FS_DM, 104 PA12/TIM1_ETR/U1_RTS/CAN1_TX/OTG_FS_DP, 105 PA13/JTMS_SWDIO, 106 Vcap_2, 107 VSS, 108 VDD, 109 PA14/JTCK_SWCLK, 110 PA15/JTDI/SPI1_NSS/SPI3_NSS/TIM2_CH1_ETR/I2S3_WS, 111 PC10/SPI3_SCK/U3_TX/U4_TX/SDIO_D2/DCMI_D8/I2S3_CK, 112 PC11/SPI3_MISO/U3_RX/U4_RX/SDIO_D3/DCMI_D4/I2S3ext_SD, 113 PC12/SPI3_MOSI/U3_CK/U5_TX/SDIO_CK/DCMI_D9/I2S3_SD, 114 PD0/FSMC_D2/CAN1_RX, 115 PD1/FSMC_D3/CAN1_TX, 116 PD2/TIM3_ETR/U5_RX/SDIO_CMD/DCMI_D11, 117 PD3/FSMC_CLK/U2_CTS, 118 PD4/FSMC_NOE/U2_RTS, 119 PD5/FSMC_NWE/U2_TX, 120 VSS, 121 VDD, 122 PD6/FSMC_NWAIT/U2_RX, 123 PD7/FSMC_NE1/FSMC_NCE2/U2_CK, 124 PG9/FSMC_NE2/FSMC_NCE3/U6_RX, 125 PG10/FSMC_NCE4_1/FSMC_NE3, 126 PG11/FSMC_NCE4_2/ETH_MII_TX_EN/ETH_RMII_TX_EN, 127 PG12/FSMC_NE4/U6_RTS, 128 PG13/FSMC_A24/U6_CTS/ETH_MII_TXD0/ETH_RMII_TXD0, 129 PG14/FSMC_A25/U6_TX/ETH_MII_TXD1/ETH_RMII_TXD1, 130 VSS, 131 VDD, 132 PG15/U6_CTS/DCMI_D13, 133 PB3/JTDO/TRACESWO/TIM2_CH2/SPI1_SCK/SPI3_SCK/I2S3_CK, 134 PB4/JNTRST/TIM3_CH1/SPI1_MISO/SPI3_MISO/I2S3ext_SD, 135 PB5/TIM3_CH2/SPI1_MOSI/SPI3_MOSI/CAN2_RX/I2C1_SMBA/OTG_HS_ULPI_D7/ETH_PPS_OUT/DCMI_D10/I2S3_SD, 136 PB6/TIM4_CH1/U1_TX/CAN2_TX/I2C1_SCL/DCMI_D5, 137 PB7/TIM4_CH2/U1_RX/FSMC_NL/I2C1_SDA/DCMI_VSYNC, 138 BOOT0, 139 PB8/TIM4_CH3/TIM10_CH1/CAN1_RX/SDIO_D4/ETH_MII_TXD3/I2C1_SCL/DCMI_D6, 140 PB9/TIM4_CH4/TIM11_CH1/CAN1_TX/SDIO_D5/SPI2_NSS/I2C1_SDA/DCMI_D7/I2S2_WS, 141 PE0/TIM4_ETR/FSMC_NBL0/DCMI_D2, 142 PE1/FSMC_NBL1/DCMI_D3, 143 PDR_ON, 144 VDD

## SW-DPST
designator S?
Double-Pole, Single-Throw Switch; Published: 24-Mar-1999; LatestRevisionDate: 17-Jul-2002; LatestRevisionNote: Re-released for DXP Platform.; PackageReference: DPST-4; Publisher: Altium Limited; PackageDescription: Switch; 4 Leads
footprint DPST-4 (Switch; 4 Leads)
pins: 1 COMMON1, 2 NO1, 3 COMMON2, 4 NO2

## SW-PB
designator S?
Switch; Published: 24-Mar-1999; LatestRevisionDate: 17-Jul-2002; LatestRevisionNote: Re-released for DXP Platform.; PackageReference: SPST-2; Publisher: Altium Limited; PackageDescription: Switch; 2 Leads
footprint SPST-2 (Switch; 2 Leads)
pins: 1, 2

## SW-SPDT
designator S?
SPDT Subminiature Toggle Switch, Right Angle Mounting, Vertical Actuation; Published: 24-Mar-1999; LatestRevisionDate: 17-Dec-2003; LatestRevisionNote: Schematic revised, PCB Footprint replaced.; DatasheetVersion: 05-Dec-2000; PackageReference: TL36WW15050; Publisher: Altium Limited; PackageDescription: Switch; 4 Leads; ComponentLink1Description: Manufacturer Link; ComponentLink1URL: http://www.apem.com
footprint TL36WW15050 (Switch; 4 Leads)
pins: 1, 2, 3

## SW-SPST
designator S?
Single-Pole, Single-Throw Switch; Published: 24-Mar-1999; LatestRevisionDate: 17-Jul-2002; LatestRevisionNote: Re-released for DXP Platform.; PackageReference: SPST-2; Publisher: Altium Limited; PackageDescription: Switch; 2 Leads
footprint SPST-2 (Switch; 2 Leads)
pins: 1 COMMON, 2 NO

## SWD
designator P?, comment JTAG(SWD)
JTAG CONNECTOR
footprint SWD (SWD接口)
pins: 1 VDD3.3 (power), 2 GND (power), 3 JTMS, 4 JCLK, 5 RESET#

## switch
designator S?, comment SW
3弯角微动开关
footprint switch (弯角微拨开关)
pins: 1, 2, 3

## TFT32
designator J?
footprint HEADER16X2_M
pins: 1 GND, 2 3V3, 3 CS, 4 (LCD_SCK)RS, 5 WR, 6 RD, 7 LCD_MOSI, 8 LCD_MISO, 9 RESET, 10 DB0, 11 DB1, 12 DB2, 13 DB3, 14 DB4, 15 DB5, 16 DB6, 17 DB7, 18 DB8, 19 DB9, 20 DB10, 21 DB11, 22 DB12, 23 DB13, 24 DB14, 25 DB15, 26 BL_CTR, 27 TP_SCK, 28 TP_CS, 29 TP_MOSI, 30 TP_BUSY, 31 TP_MISO, 32 TP_PEN

## TFT_LCD
designator TFTLCD?
pins: 1 LCD_CS, 2 RS, 3 WR/CLK, 4 RD, 5 RST, 6 D0, 7 D1, 8 D2, 9 D3, 10 D4, 11 D5, 12 D6, 13 D7, 14 D8, 15 D9, 16 D10, 17 D11, 18 D12, 19 D13, 20 D14, 21 D15, 22 GND, 23 BL, 24 VDD3.3, 25 VDD3.3, 26 GND, 27 GND, 28 BL_VDD, 29 MISO, 30 MOSI, 31 T_PEN, 32 MO, 33 T_CS, 34 CLK

## TPAD
designator TPAD?, comment ALIENTEK
ALIENTEK TPAD
footprint ALIENTEK_logo - 1 (正点原子logo，放在top层丝印)
footprint ALIENTEK_logo - 2 (正点原子logo，放在bottom层丝印)

## Trans
designator T?
Transformer; Published: 24-Mar-1999; LatestRevisionDate: 08-Jul-2005; LatestRevisionNote: Mech Layer 1 removed.; PackageReference: TRANS; Publisher: Altium Limited; PackageDescription: Transformer; 4 Leads
footprint TRANS (Transformer; 4 Leads)
simulation model TRANSFORMER (Transformer)
pins: 1, 2, 3, 4

## ULN2003
designator U?
footprint DIP16
pins: 1 IN1 (in), 2 IN2 (in), 3 IN3 (in), 4 IN4 (in), 5 IN5 (in), 6 IN6 (in), 7 IN7 (in), 8 GND (power), 9 COM (in), 10 OT7 (in), 11 OT6 (in), 12 OT5 (in), 13 OT4 (in), 14 OT3 (hiz), 15 OT2 (in), 16 OT1 (power)

## ULN2803
designator U?
footprint DIP18
pins: 1 IN1 (in), 2 IN2 (in), 3 IN3 (in), 4 IN4 (in), 5 IN5 (in), 6 IN6 (in), 7 IN7 (in), 8 IN8, 9 GND (power), 10 COM (in), 11 OT8 (in), 12 OT7 (in), 13 OT6 (in), 14 OT5 (hiz), 15 OT4 (in), 16 OT3 (power), 17 OT2, 18 OT1 (in)

## USB
designator USB1
pins: +, -, D1, D2

## USB_A_90
designator USB_HOST?, comment USB-A-90
footprint USB-A-90
pins: 1 VCC, 2 D-, 3 D+, 4 GND, 5 SHIELD, 6 SHIELD, 7 SHIELD, 8 SHIELD

## USB_MINI
designator USB_SLAVE?, comment USB-B(Mini)
footprint MINI_USB - 1 (MINI_USB,小USB接口)
footprint MINI_USB - 2 (小usb接口)
pins: 1 VCC, 2 D-, 3 D+, 4 NC, 5 GND

## VR
designator VR?
footprint VR (Thru-Hole; 3 Leads,可变电阻，滑动变阻)
pins: 1, 2, W

## W25X16
designator U?, comment W25Q128
W25X16;SST25VF016;MX25L1605
footprint W25QXX(SOP8) (WSOP8,W25QXX ，FLASH)
pins: 1 ~{CS}, 2 SO, 3 ~{WP}, 4 GND, 5 SI, 6 CLK, 7 ~{HOLD}, 8 VCC

## WM8978
designator U?
24bit ADC&DAC
footprint WM8978 (WM8978 qfn32   音频芯片)
pins: 1 LIP, 2 LIN, 3 L2/GPIO2, 4 RIP, 5 RIN, 6 R2/GPIO3, 7 LRC, 8 BCLK, 9 ADCDAT, 10 DACDAT, 11 MCLK, 12 DGND, 13 DCVDD, 14 DBVDD, 15 CSB/GPIO1, 16 SCLK, 17 SDIN, 18 MODE, 19 AUXL, 20 AUXR, 21 OUT4, 22 OUT3, 23 ROUT2, 24 SPKGND, 25 LOUT2, 26 SPKVDD, 27 VMID, 28 AGND, 29 ROUT1, 30 LOUT1, 31 AVDD, 32 MICBIAS, 33 GNDPAD

## XTAL
designator Y?, comment 8MHz
Crystal Oscillator; Published: 8-Jun-2000; LatestRevisionDate: 17-Jul-2002; LatestRevisionNote: Re-released for DXP Platform.; Publisher: Altium Limited
footprint XTAL
footprint XTAL32 (2mm*6mm,晶振，注意尺寸)
footprint XTAL32.768 (3mm*8mm，精准，注意尺寸)
pins: 1 OSC1, 2 OSC2

## ZENER
designator ?
pins: 1 A, 2 K

## 数码管
designator *
pins: 1 g, 2 f, 3 v, 4 a, 5 b, 6 dp, 7 c, 8 v, 9 d, 10 e